# EAGLE library part AE-NRF52840 (library picoKey)
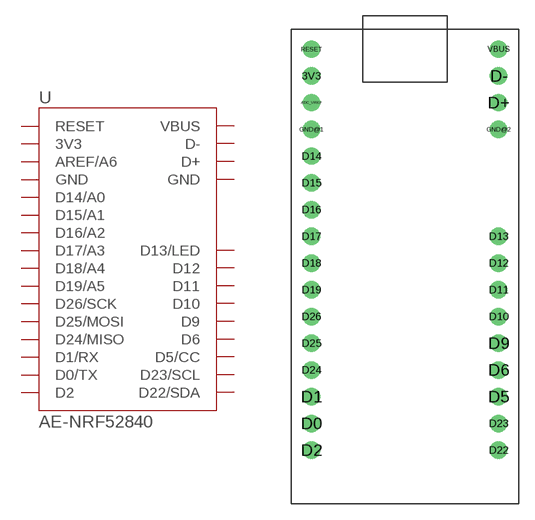
[diagram p6: symbol with the pads of AE-NRF52840; footprint AE-NRF52840]

Designator prefix U

## AE-NRF52840  [AE-NRF52840]
3V3  3V3
ADC_VREF  AREF/A6
D0  D0/TX
D1  D1/RX
D2  D2
D5  D5/CC
D6  D6
D9  D9
D10  D10
D11  D11
D12  D12
D13  D13/LED
D14  D14/A0
D15  D15/A1
D16  D16/A2
D17  D17/A3
D18  D18/A4
D19  D19/A5
D22  D22/SDA
D23  D23/SCL
D24  D24/MISO
D25  D25/MOSI
D26  D26/SCK
D+  D+
D-  D-
GND@1  GND
GND@2  GND
RESET  RESET
VBUS  VBUS

## Footprint AE-NRF52840 (pad centres in mm)
drill 1.1 pad 1.6: 3V3 -8.89,17.78; ADC_VREF -8.89,15.24; D0 -8.89,-15.24; D1 -8.89,-12.7; D2 -8.89,-17.78; D5 8.89,-12.7; D6 8.89,-10.16; D9 8.89,-7.62; D10 8.89,-5.08; D11 8.89,-2.54; D12 8.89,0; D13 8.89,2.54; D14 -8.89,10.16; D15 -8.89,7.62; D16 -8.89,5.08; D17 -8.89,2.54; D18 -8.89,0; D19 -8.89,-2.54; D22 8.89,-17.78; D23 8.89,-15.24; D24 -8.89,-10.16; D25 -8.89,-7.62; D26 -8.89,-5.08; D+ 8.89,15.24; D- 8.89,17.78; GND@1 -8.89,12.7; GND@2 8.89,12.7; RESET -8.89,20.32; VBUS 8.89,20.32